# Altium footprint library LH1546AEFTR.PcbLib: 3 footprints
Each footprint in its own frame and in the unit in brackets; x right, y up, seen from the top. Pads: shape width x height; smd on the part's side, far side on the other; paste and mask are expansions set on the pad; w line width, h text height; cw(c..) or ccw(c..) is an arc to the next point about the centre after c.
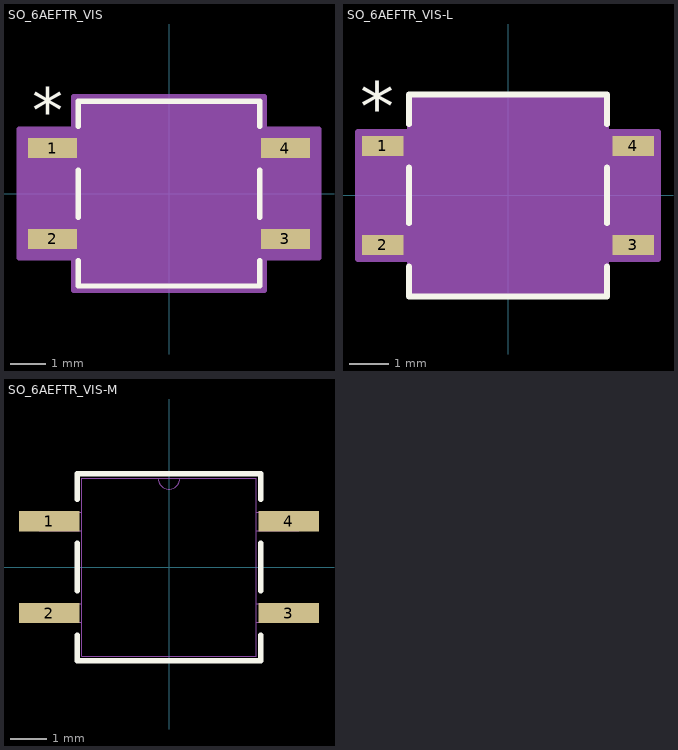
[diagram p0: the footprints below, top view; thin cyan lines are the x and y axes]

## SO_6AEFTR_VIS [mil]
pads (4):
  rect 54x22 smd paste+0 mask+0: 1(-128.5,50) 2(-128.5,-50) 3(128.5,-50) 4(128.5,50)
Top Overlay:
  lines w6: -100,-74.01 -100,-102 100,-102 100,-74.01 ; -100,-25.99 -100,25.99 ; -100,74.01 -100,102 100,102 100,74.01 ; 100,-25.99 100,25.99
  text "*" at -151,67 h50
Mechanical 13:
  lines w0: -12,97 ccw(c0,97) 12,97
  lines w1: -141.5,-60 -141.5,-40 -95,-40 -95,-60 -141.5,-60 ; -141.5,40 -141.5,60 -95,60 -95,40 -141.5,40 ; -95,-97 95,-97 95,97 -95,97 -95,-97 ; 95,-60 95,-40 141.5,-40 141.5,-60 95,-60 ; 95,40 95,60 141.5,60 141.5,40 95,40
  text "*" at -92.5,44 h50
Mechanical 15:
  region: -105,-71 -165.5,-71 -165.5,71 -105,71 -105,107 105,107 105,71 165.5,71 165.5,-71 105,-71 105,-107 -105,-107
  lines w6: -165.5,-71 -165.5,71 -105,71 -105,107 105,107 105,71 165.5,71 165.5,-71 105,-71 105,-107 -105,-107 -105,-71 -165.5,-71
3D body "SO_6AEFTR_VIS.step": height 91.1, standoff 0, extent -141.5,-97.01 141.5,97.01

## SO_6AEFTR_VIS-L [mil]
pads (4):
  rect 42x20 smd paste+0 mask+0: 1(-126.5,50) 2(-126.5,-50) 3(126.5,-50) 4(126.5,50)
Top Overlay:
  lines w6: -100,-71.89 -100,-102 100,-102 100,-71.89 ; -100,-28.11 -100,28.11 ; -100,71.89 -100,102 100,102 100,71.89 ; 100,-28.11 100,28.11
  text "*" at -149,65 h50
Mechanical 13:
  lines w0: -12,97 ccw(c0,97) 12,97
  lines w1: -141.5,-60 -95,-60 -95,-40 -141.5,-40 -141.5,-60 ; -141.5,40 -95,40 -95,60 -141.5,60 -141.5,40 ; -95,-97 -95,97 95,97 95,-97 -95,-97 ; 95,-60 141.5,-60 141.5,-40 95,-40 95,-60 ; 95,40 141.5,40 141.5,60 95,60 95,40
  text "*" at -92.5,44 h50
Mechanical 15:
  region: -99,-64 -151.5,-64 -151.5,64 -99,64 -99,101 99,101 99,64 151.5,64 151.5,-64 99,-64 99,-101 -99,-101
  lines w6: -151.5,-64 -99,-64 -99,-101 99,-101 99,-64 151.5,-64 151.5,64 99,64 99,101 -99,101 -99,64 -151.5,64 -151.5,-64
3D body "SO_6AEFTR_VIS.step": height 91.1, standoff 0, extent -141.5,-97.01 141.5,97.01

## SO_6AEFTR_VIS-M [mil]
pads (4):
  rect 66x22 smd: 1(-130.5,50) 2(-130.5,-50) 3(130.5,-50) 4(130.5,50)
Top Overlay:
  lines w6: -100,-74.1 -100,-102 100,-102 100,-74.1 ; -100,-25.9 -100,25.9 ; -100,74.1 -100,102 100,102 100,74.1 ; 100,-25.9 100,25.9
Mechanical 13:
  lines w0: -12,97 ccw(c0,97) 12,97
  lines w1: -141.5,-60 -141.5,-40 -95,-40 -95,-60 -141.5,-60 ; -141.5,40 -141.5,60 -95,60 -95,40 -141.5,40 ; -95,-97 95,-97 95,97 -95,97 -95,-97 ; 95,-60 95,-40 141.5,-40 141.5,-60 95,-60 ; 95,40 95,60 141.5,60 141.5,40 95,40
3D body "SO_6AEFTR_VIS.step": height 91.1, standoff 0, extent -141.5,-97.01 141.5,97.01